# EAGLE library part PIC32MX250F128-B (library PonLib)
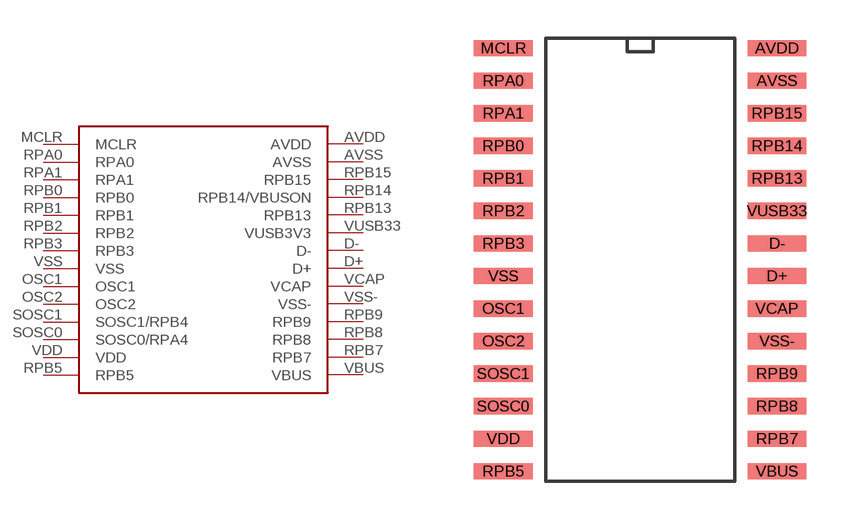
[diagram p4: symbol with the pads of SOIC-28-MICROCHIP; footprint SOIC-28-MICROCHIP]

Designator prefix -

## PIC32MX250F128-B  [SOIC-28-MICROCHIP]
AVDD  AVDD
AVSS  AVSS
D+  D+
D-  D-
MCLR  MCLR
OSC1  OSC1
OSC2  OSC2
RPA0  RPA0
RPA1  RPA1
RPB0  RPB0
RPB1  RPB1
RPB2  RPB2
RPB3  RPB3
RPB5  RPB5
RPB7  RPB7
RPB8  RPB8
RPB9  RPB9
RPB13  RPB13
RPB14  RPB14/VBUSON
RPB15  RPB15
SOSC0  SOSC0/RPA4
SOSC1  SOSC1/RPB4
VBUS  VBUS
VCAP  VCAP
VDD  VDD
VSS  VSS
VSS-  VSS-
VUSB33  VUSB3V3

## Footprint SOIC-28-MICROCHIP (pad centres in mm)
smd 2.286 x 0.635: AVDD 5.334,8.255; AVSS 5.334,6.985; D+ 5.334,-0.635; D- 5.334,0.635; MCLR -5.334,8.255; OSC1 -5.334,-1.905; OSC2 -5.334,-3.175; RPA0 -5.334,6.985; RPA1 -5.334,5.715; RPB0 -5.334,4.445; RPB1 -5.334,3.175; RPB2 -5.334,1.905; RPB3 -5.334,0.635; RPB5 -5.334,-8.255; RPB7 5.334,-6.985; RPB8 5.334,-5.715; RPB9 5.334,-4.445; RPB13 5.334,3.175; RPB14 5.334,4.445; RPB15 5.334,5.715; SOSC0 -5.334,-5.715; SOSC1 -5.334,-4.445; VBUS 5.334,-8.255; VCAP 5.334,-1.905; VDD -5.334,-6.985; VSS -5.334,-0.635; VSS- 5.334,-3.175; VUSB33 5.334,1.905